# Altium schematic symbol library KC2520Z8.00000C1KX00.SchLib: 1 symbol
Pins are listed as number, name and electrical type; pins without a type are passive.

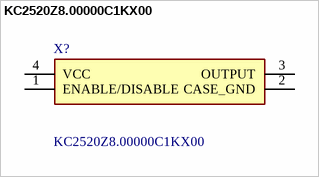
[diagram p0: symbol KC2520Z8.00000C1KX00]

## KC2520Z8.00000C1KX00
designator X?
Standard Clock Oscillators 8 MHz 20 PPM 15 pF; Manufacturer_Name: Kyocera AVX; Geometry.Height: 0.8mm; Mouser Part Number: 581-KC2520Z800C1KX00; Mouser Price/Stock: https://www.mouser.co.uk/ProductDetail/KYOCERA-AVX/KC2520Z8.00000C1KX00?qs=rrS6PyfT74cbg89ZqaPNCA%3D%3D; Manufacturer_Part_Number: KC2520Z8.00000C1KX00; Datasheet Link: https://componentsearchengine.com/Datasheets/1/KC2520Z8.00000C1KX00.pdf
footprint KC2520Z800000C1KX00
pins: 1 ENABLE/DISABLE, 2 CASE_GND, 3 OUTPUT, 4 VCC